# EAGLE library part ROTARYENCORDER_BRICK (library gclue)
Rotary Encorder for Brick
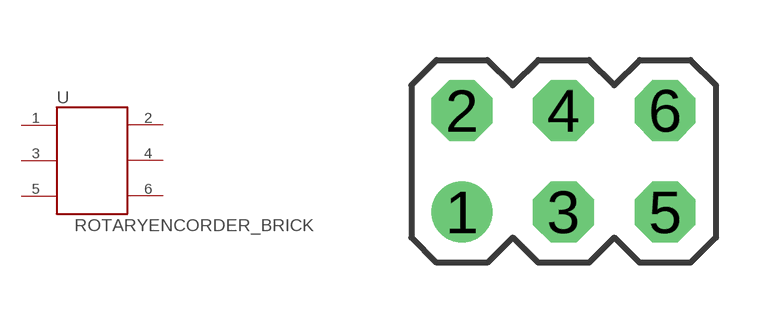
[diagram p13: symbol with the pads of ROTARYENCORDER_BRICK; footprint ROTARYENCORDER_BRICK]

Designator prefix U

## ROTARYENCORDER_BRICK  [ROTARYENCORDER_BRICK]
1  1
2  2
3  3
4  4
5  5
6  6

## Footprint ROTARYENCORDER_BRICK (pad centres in mm)
drill 1.016: 1 -2.54,-1.27
drill 1.016 octagon: 2 -2.54,1.27; 3 0,-1.27; 4 0,1.27; 5 2.54,-1.27; 6 2.54,1.27